# Altium schematic symbol library THT_Ceramic_Cap_Sch.SchLib: 4 symbols
Pins are listed as number, name and electrical type; pins without a type are passive.

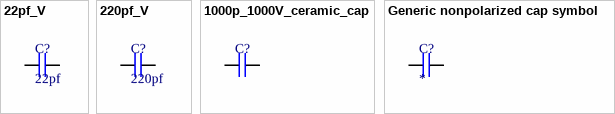
[diagram p0: symbols 22pf_V to Generic nonpolarized cap symbol]

## 22pf_V
designator C?, comment 22pf
footprint 0.4X2.5_THT_Ceramic_Disc
pins: 1, 2

## 220pf_V
designator C?, comment 220pf
footprint 0.4X2.5_THT_Ceramic_Disc
pins: 1, 2

## 1000p_1000V_ceramic_cap
designator C?
footprint 2.5x10_THT_Ceramic_Cap
pins: 1, 2

## Generic nonpolarized cap symbol
designator C?
pins: 1, 2